# EAGLE library part SI-46001-F (library 1_spektrak)
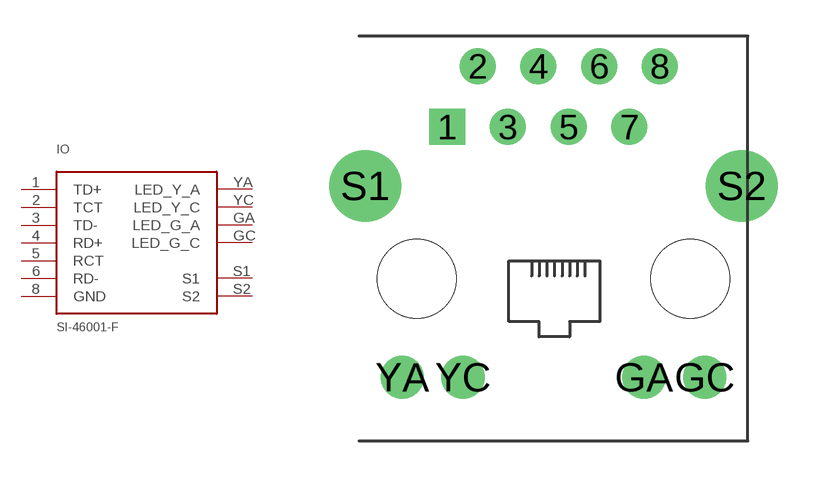
[diagram p12: symbol with the pads of ETHER_CON; footprint ETHER_CON]

Designator prefix IO

## SI-46001-F  [ETHER_CON]
1  TD+
2  TCT
3  TD-
4  RD+
5  RCT
6  RD-
8  GND
GA  LED_G_A
GC  LED_G_C
S1  S1
S2  S2
YA  LED_Y_A
YC  LED_Y_C

## Footprint ETHER_CON (pad centres in mm)
drill 1 square: 1 -3.848,1.791
drill 1: 2 -2.578,4.331; 3 -1.308,1.791; 4 -0.038,4.331; 5 1.232,1.791; 6 2.502,4.331; 7 3.772,1.791; 8 5.042,4.331
drill 1.2: GA 4.381,-8.674; GC 6.921,-8.674; YA -5.728,-8.674; YC -3.188,-8.674
drill 2: S1 -7.277,-0.673; S2 8.471,-0.673
hole 3.302 at -5.118,-4.559
hole 3.302 at 6.312,-4.559